# Altium footprint library CONN HEADER 2.50MM PITCH.PcbLib: 52 footprints (part 3 of 4)
Each footprint in its own frame and in the unit in brackets; x right, y up, seen from the top. Pads: shape width x height; smd on the part's side, far side on the other; paste and mask are expansions set on the pad; w line width, h text height; cw(c..) or ccw(c..) is an arc to the next point about the centre after c.
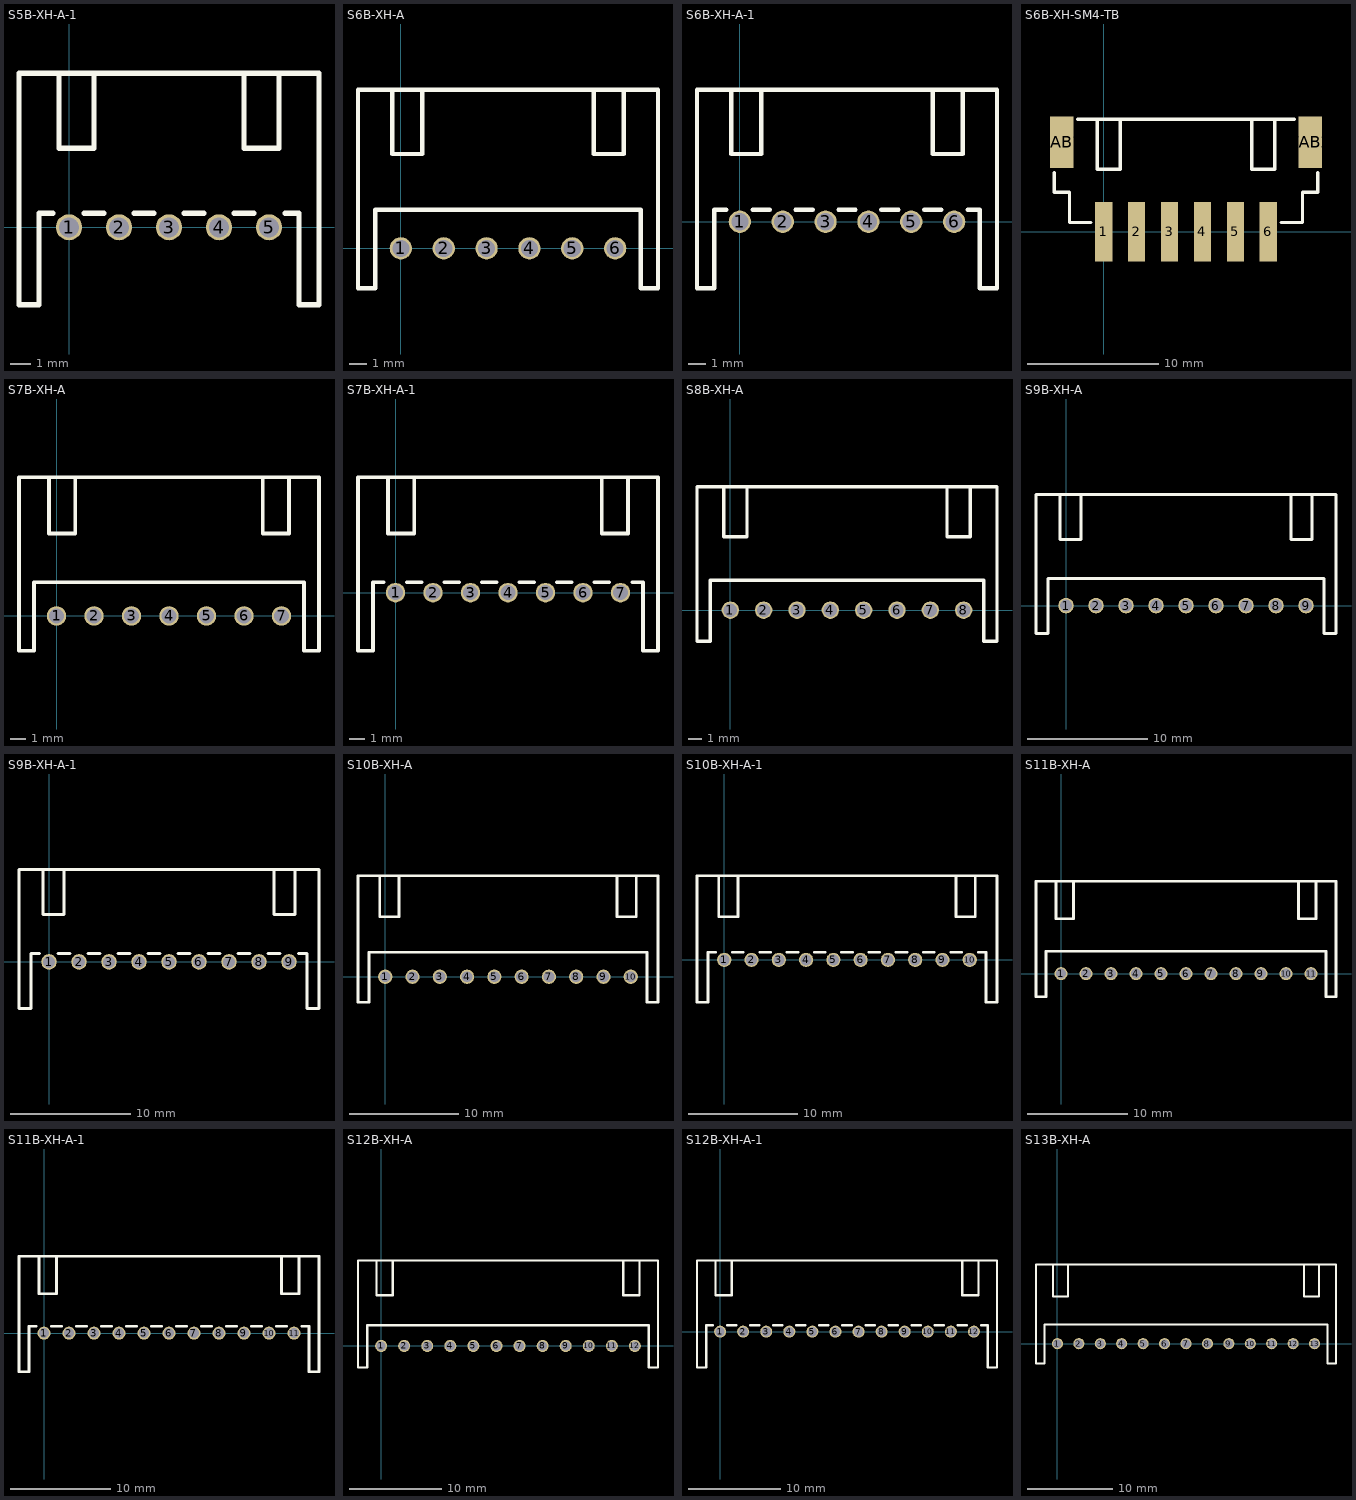
[diagram p2: the footprints below, top view; thin cyan lines are the x and y axes]

## S5B-XH-A-1 [mm] "S5B-XH-A-1"
height 6.1
pads (5):
  round 1.3 hole 1: 1(0,0) 2(2.5,0) 3(5,0) 4(7.5,0) 5(10,0)
Top Overlay:
  lines w0.254: -2.5,-3.875 -1.5,-3.875 -1.5,0.7 -0.8,0.7 ; -2.5,-3.8 -2.5,7.7 12.5,7.7 12.5,-3.875 11.5,-3.875 11.5,0.7 10.8,0.7 ; -0.5,7.7 -0.5,3.95 1.25,3.95 1.25,7.7 ; 0.75,0.7 1.75,0.7 ; 3.25,0.7 4.25,0.7 ; 5.75,0.7 6.75,0.7 ; 8.25,0.7 9.25,0.7 ; 8.75,7.7 8.75,3.95 10.5,3.95 10.5,7.7
3D body "S5B-XH-A-1.STEP": height 6.15, standoff -3.4, extent -2.45,-3.875 12.45,7.625

## S6B-XH-A [mm] "S6B-XH-A"
height 6.1
pads (6):
  round 1.3 hole 1: 1(0,0) 2(2.5,0) 3(5,0) 4(7.5,0) 5(10,0) 6(12.5,0)
Top Overlay:
  lines w0.254: -2.5,-2.325 -1.5,-2.325 -1.5,2.25 14,2.25 14,-2.325 15,-2.325 15,9.25 -2.5,9.25 -2.5,-2.25 ; -0.5,9.25 -0.5,5.5 1.25,5.5 1.25,9.25 ; 11.25,9.25 11.25,5.5 13,5.5 13,9.25
3D body "S6B-XH-A.STEP": height 6.15, standoff -3.4, extent -2.45,-2.25 14.95,9.25

## S6B-XH-A-1 [mm] "S6B-XH-A-1"
height 6.1
pads (6):
  round 1.3 hole 1: 1(0,0) 2(2.5,0) 3(5,0) 4(7.5,0) 5(10,0) 6(12.5,0)
Top Overlay:
  lines w0.254: -2.5,-3.875 -1.5,-3.875 -1.5,0.7 -0.8,0.7 ; -2.5,-3.8 -2.5,7.7 15,7.7 15,-3.875 14,-3.875 14,0.7 13.3,0.7 ; -0.5,7.7 -0.5,3.95 1.25,3.95 1.25,7.7 ; 0.75,0.7 1.75,0.7 ; 3.25,0.7 4.25,0.7 ; 5.75,0.7 6.75,0.7 ; 8.25,0.7 9.25,0.7 ; 10.75,0.7 11.75,0.7 ; 11.25,7.7 11.25,3.95 13,3.95 13,7.7
3D body "S6B-XH-A-1.STEP": height 6.15, standoff -3.4, extent -2.45,-3.875 14.95,7.625

## S6B-XH-SM4-TB [mm] "S6B-XH-SM4-TB"
height 6.1
pads (8):
  rect 1.3x4.5 smd: 1(0,0) 2(2.5,0) 3(5,0) 4(7.5,0) 5(10,0) 6(12.5,0)
  rect 1.8x3.9 smd: TAB1(-3.2,6.8) TAB2(15.7,6.8)
Top Overlay:
  lines w0.254: -3.775,4.5 -3.775,3 -2.6,3 -2.6,0.7 -1,0.7 ; -2,8.55 14.5,8.55 ; -0.5,8.5 -0.5,4.75 1.25,4.75 1.25,8.5 ; 11.25,8.5 11.25,4.75 13,4.75 13,8.5 ; 13.5,0.7 15.1,0.7 15.1,3 16.275,3 16.275,4.5
3D body "S6B-XH-SM4-TB.STEP": height 6, standoff 0, extent -3.725,-1.45 16.225,8.55

## S7B-XH-A [mm] "S7B-XH-A"
height 6.1
pads (7):
  round 1.3 hole 1: 1(0,0) 2(2.5,0) 3(5,0) 4(7.5,0) 5(10,0) 6(12.5,0) 7(15,0)
Top Overlay:
  lines w0.254: -2.5,-2.325 -1.5,-2.325 -1.5,2.25 16.5,2.25 16.5,-2.325 17.5,-2.325 17.5,9.25 -2.5,9.25 -2.5,-2.25 ; -0.5,9.25 -0.5,5.5 1.25,5.5 1.25,9.25 ; 13.75,9.25 13.75,5.5 15.5,5.5 15.5,9.25
3D body "S7B-XH-A.STEP": height 6.17, standoff -3.37, extent -2.45,-2.35 17.45,9.15

## S7B-XH-A-1 [mm] "S7B-XH-A-1"
height 6.1
pads (7):
  round 1.3 hole 1: 1(0,0) 2(2.5,0) 3(5,0) 4(7.5,0) 5(10,0) 6(12.5,0) 7(15,0)
Top Overlay:
  lines w0.254: -2.5,-3.875 -1.5,-3.875 -1.5,0.7 -0.8,0.7 ; -2.5,-3.8 -2.5,7.7 17.5,7.7 17.5,-3.875 16.5,-3.875 16.5,0.7 15.8,0.7 ; -0.5,7.7 -0.5,3.95 1.25,3.95 1.25,7.7 ; 0.75,0.7 1.75,0.7 ; 3.25,0.7 4.25,0.7 ; 5.75,0.7 6.75,0.7 ; 8.25,0.7 9.25,0.7 ; 10.75,0.7 11.75,0.7 ; 13.25,0.7 14.25,0.7 ; 13.75,7.7 13.75,3.95 15.5,3.95 15.5,7.7
3D body "S7B-XH-A-1.STEP": height 6.15, standoff -3.4, extent -2.45,-3.875 17.45,7.625

## S8B-XH-A [mm] "S8B-XH-A"
height 6.1
pads (8):
  round 1.3 hole 1: 1(0,0) 2(2.5,0) 3(5,0) 4(7.5,0) 5(10,0) 6(12.5,0) 7(15,0) 8(17.5,0)
Top Overlay:
  lines w0.254: -2.5,-2.325 -1.5,-2.325 -1.5,2.25 19,2.25 19,-2.325 20,-2.325 20,9.25 -2.5,9.25 -2.5,-2.25 ; -0.5,9.25 -0.5,5.5 1.25,5.5 1.25,9.25 ; 16.25,9.25 16.25,5.5 18,5.5 18,9.25
3D body "S8B-XH-A.STEP": height 6.15, standoff -3.4, extent -2.45,-2.25 19.95,9.25

## S9B-XH-A [mm] "S9B-XH-A"
height 6.1
pads (9):
  round 1.3 hole 1: 1(0,0) 2(2.5,0) 3(5,0) 4(7.5,0) 5(10,0) 6(12.5,0) 7(15,0) 8(17.5,0) 9(20,0)
Top Overlay:
  lines w0.254: -2.5,-2.325 -1.5,-2.325 -1.5,2.25 21.5,2.25 21.5,-2.325 22.5,-2.325 22.5,9.25 -2.5,9.25 -2.5,-2.25 ; -0.5,9.25 -0.5,5.5 1.25,5.5 1.25,9.25 ; 18.75,9.25 18.75,5.5 20.5,5.5 20.5,9.25
3D body "S9B-XH-A.STEP": height 6.17, standoff -3.37, extent -2.45,-2.35 22.45,9.15

## S9B-XH-A-1 [mm] "S9B-XH-A-1"
height 6.1
pads (9):
  round 1.3 hole 1: 1(0,0) 2(2.5,0) 3(5,0) 4(7.5,0) 5(10,0) 6(12.5,0) 7(15,0) 8(17.5,0) 9(20,0)
Top Overlay:
  lines w0.254: -2.5,-3.875 -1.5,-3.875 -1.5,0.7 -0.8,0.7 ; -2.5,-3.8 -2.5,7.7 22.5,7.7 22.5,-3.875 21.5,-3.875 21.5,0.7 20.8,0.7 ; -0.5,7.7 -0.5,3.95 1.25,3.95 1.25,7.7 ; 0.75,0.7 1.75,0.7 ; 3.25,0.7 4.25,0.7 ; 5.75,0.7 6.75,0.7 ; 8.25,0.7 9.25,0.7 ; 10.75,0.7 11.75,0.7 ; 13.25,0.7 14.25,0.7 ; 15.75,0.7 16.75,0.7 ; 18.25,0.7 19.25,0.7 ; 18.75,7.7 18.75,3.95 20.5,3.95 20.5,7.7
3D body "S9B-XH-A-1.STEP": height 6.15, standoff -3.4, extent -2.45,-3.875 22.45,7.625

## S10B-XH-A [mm] "S10B-XH-A"
height 6.1
pads (10):
  round 1.3 hole 1: 1(0,0) 2(2.5,0) 3(5,0) 4(7.5,0) 5(10,0) 6(12.5,0) 7(15,0) 8(17.5,0) 9(20,0) 10(22.5,0)
Top Overlay:
  lines w0.254: -2.5,-2.325 -1.5,-2.325 -1.5,2.25 24,2.25 24,-2.325 25,-2.325 25,9.25 -2.5,9.25 -2.5,-2.25 ; -0.5,9.25 -0.5,5.5 1.25,5.5 1.25,9.25 ; 21.25,9.25 21.25,5.5 23,5.5 23,9.25
3D body "S10B-XH-A.STEP": height 6.15, standoff -3.4, extent -2.45,-2.25 24.95,9.25

## S10B-XH-A-1 [mm] "S10B-XH-A-1"
height 6.1
pads (10):
  round 1.3 hole 1: 1(0,0) 2(2.5,0) 3(5,0) 4(7.5,0) 5(10,0) 6(12.5,0) 7(15,0) 8(17.5,0) 9(20,0) 10(22.5,0)
Top Overlay:
  lines w0.254: -2.5,-3.875 -1.5,-3.875 -1.5,0.7 -0.8,0.7 ; -2.5,-3.8 -2.5,7.7 25,7.7 25,-3.875 24,-3.875 24,0.7 23.3,0.7 ; -0.5,7.7 -0.5,3.95 1.25,3.95 1.25,7.7 ; 0.75,0.7 1.75,0.7 ; 3.25,0.7 4.25,0.7 ; 5.75,0.7 6.75,0.7 ; 8.25,0.7 9.25,0.7 ; 10.75,0.7 11.75,0.7 ; 13.25,0.7 14.25,0.7 ; 15.75,0.7 16.75,0.7 ; 18.25,0.7 19.25,0.7 ; 20.75,0.7 21.75,0.7 ; 21.25,7.7 21.25,3.95 23,3.95 23,7.7
3D body "S10B-XH-A-1.STEP": height 6.15, standoff -3.4, extent -2.45,-3.875 24.95,7.625

## S11B-XH-A [mm] "S11B-XH-A"
height 6.1
pads (11):
  round 1.3 hole 1: 1(0,0) 2(2.5,0) 3(5,0) 4(7.5,0) 5(10,0) 6(12.5,0) 7(15,0) 8(17.5,0) 9(20,0) 10(22.5,0) 11(25,0)
Top Overlay:
  lines w0.254: -2.5,-2.325 -1.5,-2.325 -1.5,2.25 26.5,2.25 26.5,-2.325 27.5,-2.325 27.5,9.25 -2.5,9.25 -2.5,-2.25 ; -0.5,9.25 -0.5,5.5 1.25,5.5 1.25,9.25 ; 23.75,9.25 23.75,5.5 25.5,5.5 25.5,9.25
3D body "S11B-XH-A.STEP": height 6.17, standoff -3.37, extent -2.45,-2.35 27.45,9.15

## S11B-XH-A-1 [mm] "S11B-XH-A-1"
height 6.1
pads (11):
  round 1.3 hole 1: 1(0,0) 2(2.5,0) 3(5,0) 4(7.5,0) 5(10,0) 6(12.5,0) 7(15,0) 8(17.5,0) 9(20,0) 10(22.5,0) 11(25,0)
Top Overlay:
  lines w0.254: -2.5,-3.875 -1.5,-3.875 -1.5,0.7 -0.8,0.7 ; -2.5,-3.8 -2.5,7.7 27.5,7.7 27.5,-3.875 26.5,-3.875 26.5,0.7 25.8,0.7 ; -0.5,7.7 -0.5,3.95 1.25,3.95 1.25,7.7 ; 0.75,0.7 1.75,0.7 ; 3.25,0.7 4.25,0.7 ; 5.75,0.7 6.75,0.7 ; 8.25,0.7 9.25,0.7 ; 10.75,0.7 11.75,0.7 ; 13.25,0.7 14.25,0.7 ; 15.75,0.7 16.75,0.7 ; 18.25,0.7 19.25,0.7 ; 20.75,0.7 21.75,0.7 ; 23.25,0.7 24.25,0.7 ; 23.75,7.7 23.75,3.95 25.5,3.95 25.5,7.7
3D body "S11B-XH-A-1.STEP": height 6.15, standoff -3.4, extent -2.45,-3.875 27.45,7.625

## S12B-XH-A [mm] "S12B-XH-A"
height 6.1
pads (12):
  round 1.3 hole 1: 1(0,0) 2(2.5,0) 3(5,0) 4(7.5,0) 5(10,0) 6(12.5,0) 7(15,0) 8(17.5,0) 9(20,0) 10(22.5,0) 11(25,0) 12(27.5,0)
Top Overlay:
  lines w0.254: -2.5,-2.325 -1.5,-2.325 -1.5,2.25 29,2.25 29,-2.325 30,-2.325 30,9.25 -2.5,9.25 -2.5,-2.25 ; -0.5,9.25 -0.5,5.5 1.25,5.5 1.25,9.25 ; 26.25,9.25 26.25,5.5 28,5.5 28,9.25
3D body "S12B-XH-A.STEP": height 6.15, standoff -3.4, extent -2.45,-2.25 29.95,9.25

## S12B-XH-A-1 [mm] "S12B-XH-A-1"
height 6.1
pads (12):
  round 1.3 hole 1: 1(0,0) 2(2.5,0) 3(5,0) 4(7.5,0) 5(10,0) 6(12.5,0) 7(15,0) 8(17.5,0) 9(20,0) 10(22.5,0) 11(25,0) 12(27.5,0)
Top Overlay:
  lines w0.254: -2.5,-3.875 -1.5,-3.875 -1.5,0.7 -0.8,0.7 ; -2.5,-3.8 -2.5,7.7 30,7.7 30,-3.875 29,-3.875 29,0.7 28.3,0.7 ; -0.5,7.7 -0.5,3.95 1.25,3.95 1.25,7.7 ; 0.75,0.7 1.75,0.7 ; 3.25,0.7 4.25,0.7 ; 5.75,0.7 6.75,0.7 ; 8.25,0.7 9.25,0.7 ; 10.75,0.7 11.75,0.7 ; 13.25,0.7 14.25,0.7 ; 15.75,0.7 16.75,0.7 ; 18.25,0.7 19.25,0.7 ; 20.75,0.7 21.75,0.7 ; 23.25,0.7 24.25,0.7 ; 25.75,0.7 26.75,0.7 ; 26.25,7.7 26.25,3.95 28,3.95 28,7.7
3D body "S12B-XH-A-1.STEP": height 6.15, standoff -3.4, extent -2.45,-3.875 29.95,7.625

## S13B-XH-A [mm] "S13B-XH-A"
height 6.1
pads (13):
  round 1.3 hole 1: 1(0,0) 2(2.5,0) 3(5,0) 4(7.5,0) 5(10,0) 6(12.5,0) 7(15,0) 8(17.5,0) 9(20,0) 10(22.5,0) 11(25,0) 12(27.5,0) 13(30,0)
Top Overlay:
  lines w0.254: -2.5,-2.325 -1.5,-2.325 -1.5,2.25 31.5,2.25 31.5,-2.325 32.5,-2.325 32.5,9.25 -2.5,9.25 -2.5,-2.25 ; -0.5,9.25 -0.5,5.5 1.25,5.5 1.25,9.25 ; 28.75,9.25 28.75,5.5 30.5,5.5 30.5,9.25
3D body "S13B-XH-A.STEP": height 6.17, standoff -3.37, extent -2.45,-2.35 32.45,9.15